# Altium schematic symbol library ConnectorsMetric.SchLib: 2 symbols
Pins are listed as number, name and electrical type; pins without a type are passive.

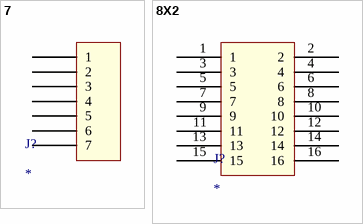
[diagram p0: symbols 7 to 8X2]

## 7
designator J?
pins: 1, 2, 3, 4, 5, 6, 7

## 8X2
designator J?
pins: 1, 2, 3, 4, 5, 6, 7, 8, 9, 10, 11, 12, 13, 14, 15, 16